# Altium footprint library IS471FE.PcbLib: 1 footprints
Each footprint in its own frame and in the unit in brackets; x right, y up, seen from the top. Pads: shape width x height; smd on the part's side, far side on the other; paste and mask are expansions set on the pad; w line width, h text height; cw(c..) or ccw(c..) is an arc to the next point about the centre after c.
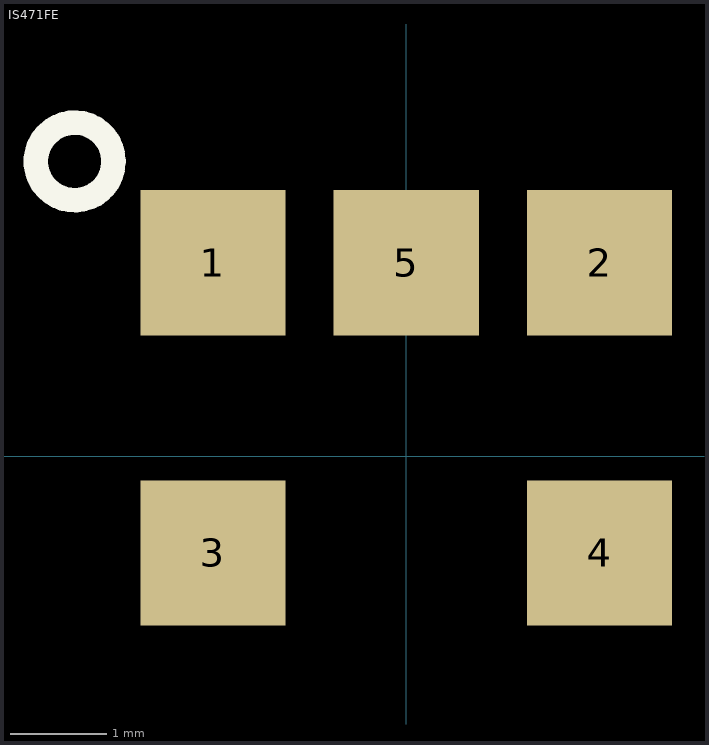
[diagram p0: the footprint, top view; thin cyan lines are the x and y axes]

## IS471FE [mm]
pads (5):
  rect 1.5x1.5 smd: 1(-2,2) 2(2,2) 3(-2,-1) 4(2,-1) 5(0,2)
Top Overlay:
  circle w0.254: c-3.429,3.048 r0.402